# Altium footprint library Connectors.PcbLib: 10 footprints
Each footprint in its own frame and in the unit in brackets; x right, y up, seen from the top. Pads: shape width x height; smd on the part's side, far side on the other; paste and mask are expansions set on the pad; w line width, h text height; cw(c..) or ccw(c..) is an arc to the next point about the centre after c.
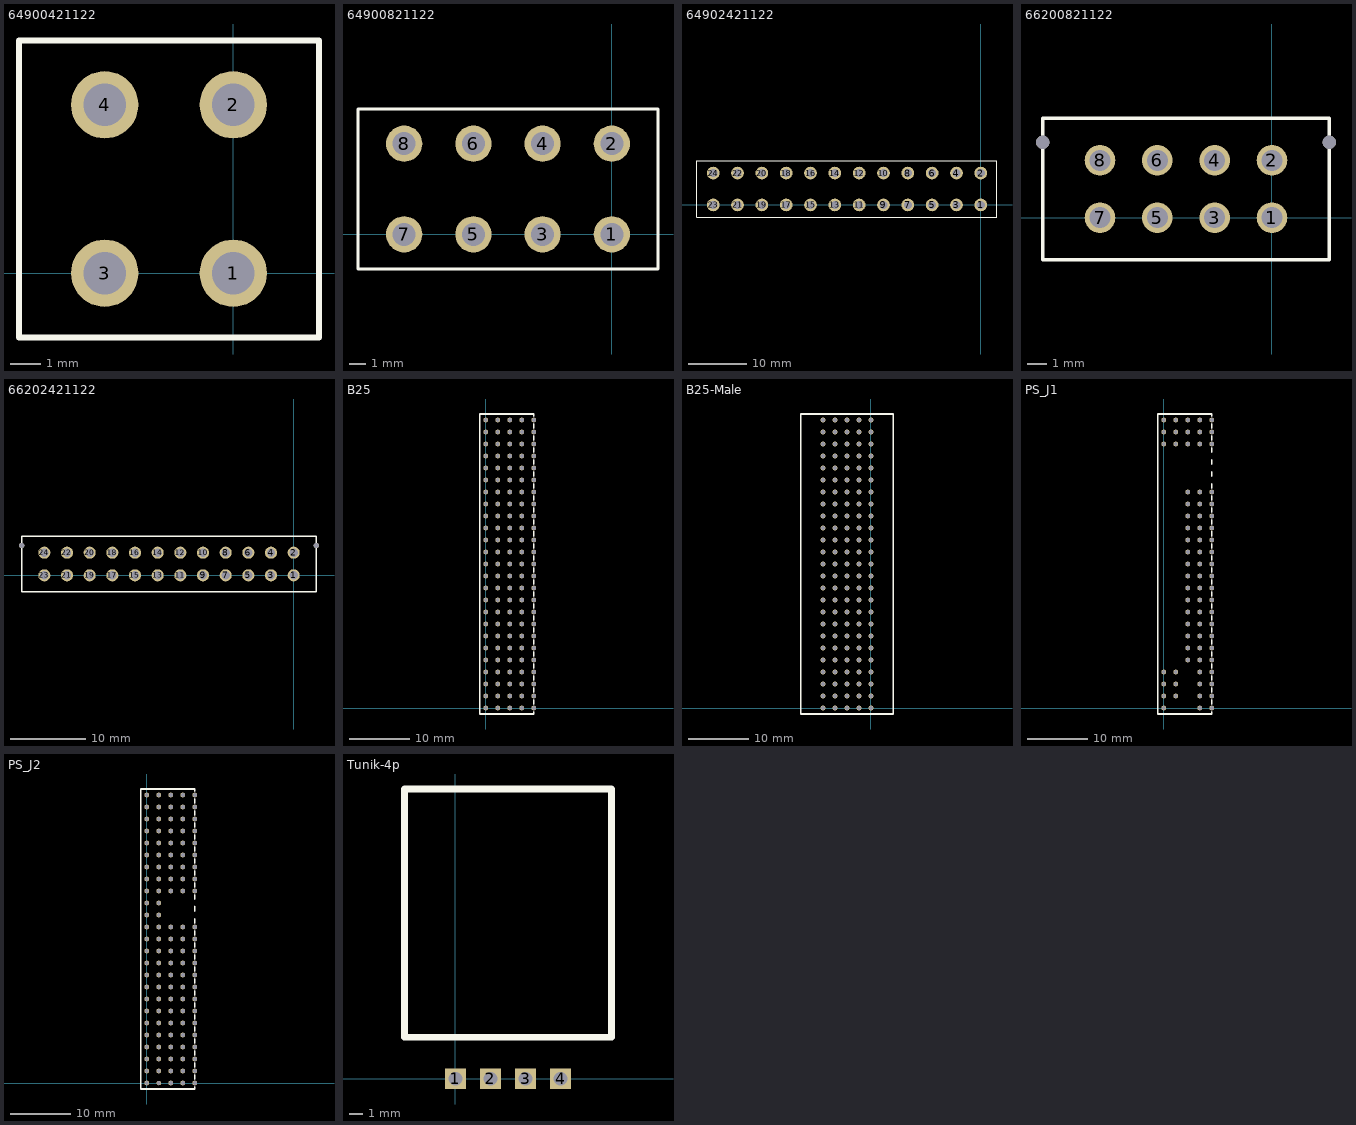
[diagram p0: the footprints below, top view; thin cyan lines are the x and y axes]

## 64900421122 [mm]
pads (4):
  round 2.2 hole 1.4: 1(0,0) 2(0,5.5) 3(-4.2,0) 4(-4.2,5.5)
Top Overlay:
  lines w0.2: -7,-2.1 2.8,-2.1 2.8,7.6 -7,7.6 -7,-2.1

## 64900821122 [mm]
pads (8):
  round 2.2 hole 1.4: 1(0,0) 2(0,5.5) 3(-4.2,0) 4(-4.2,5.5) 5(-8.4,0) 6(-8.4,5.5) 7(-12.6,0) 8(-12.6,5.5)
Top Overlay:
  lines w0.2: -15.4,-2.1 -15.4,7.6 2.8,7.6 2.8,-2.1 -15.4,-2.1

## 64902421122 [mm]
pads (24):
  round 2.2 hole 1.4: 1(0,0) 2(0,5.5) 3(-4.2,0) 4(-4.2,5.5) 5(-8.4,0) 6(-8.4,5.5) 7(-12.6,0) 8(-12.6,5.5) 9(-16.8,0) 10(-16.8,5.5) 11(-21,0) 12(-21,5.5) 13(-25.2,0) 14(-25.2,5.5) 15(-29.4,0) 16(-29.4,5.5) 17(-33.6,0) 18(-33.6,5.5) 19(-37.8,0) 20(-37.8,5.5) 21(-42,0) 22(-42,5.5) 23(-46.2,0) 24(-46.2,5.5)
Top Overlay:
  lines w0.2: -49,-2.1 2.8,-2.1 2.8,7.6 -49,7.6 -49,-2.1

## 66200821122 [mm]
pads (10):
  round 1.6 hole 1.1: 1(0,0) 2(0,3) 3(-3,0) 4(-3,3) 5(-6,0) 6(-6,3) 7(-9,0) 8(-9,3)
  round 0.7 hole 0.7: ""(-12,3.94) ""(3,3.94)
Top Overlay:
  lines w0.2: -12,-2.2 -12,5.2 3,5.2 3,-2.2 -12,-2.2

## 66202421122 [mm]
pads (26):
  round 1.6 hole 1.1: 1(0,0) 2(0,3) 3(-3,0) 4(-3,3) 5(-6,0) 6(-6,3) 7(-9,0) 8(-9,3) 9(-12,0) 10(-12,3) 11(-15,0) 12(-15,3) 13(-18,0) 14(-18,3) 15(-21,0) 16(-21,3) 17(-24,0) 18(-24,3) 19(-27,0) 20(-27,3) 21(-30,0) 22(-30,3) 23(-33,0) 24(-33,3)
  round 0.7 hole 0.7: ""(-36,3.94) ""(3,3.94)
Top Overlay:
  lines w0.2: -36,-2.2 3,-2.2 3,5.2 -33,5.2 -36,5.2 -36,-2.2

## B25 [mm] "EPT B25 Female Connector 244-21300-15"
height 20
pads (125):
  round 0.8 hole 0.65: A1(0,0) A2(0,2) A3(0,4) A4(0,6) A5(0,8) A6(0,10) A7(0,12) A8(0,14) A9(0,16) A10(0,18) A11(0,20) A12(0,22) A13(0,24) A14(0,26) A15(0,28) A16(0,30) A17(0,32) A18(0,34) A19(0,36) A20(0,38) A21(0,40) A22(0,42) A23(0,44) A24(0,46) A25(0,48) B1(2,0) B2(2,2) B3(2,4) B4(2,6) B5(2,8) B6(2,10) B7(2,12) B8(2,14) B9(2,16) B10(2,18) B11(2,20) B12(2,22) B13(2,24) B14(2,26) B15(2,28) B16(2,30) B17(2,32) B18(2,34) B19(2,36) B20(2,38) B21(2,40) B22(2,42) B23(2,44) B24(2,46) B25(2,48) C1(4,0) C2(4,2) C3(4,4) C4(4,6) C5(4,8) C6(4,10) C7(4,12) C8(4,14) C9(4,16) C10(4,18) C11(4,20) C12(4,22) C13(4,24) C14(4,26) C15(4,28) C16(4,30) C17(4,32) C18(4,34) C19(4,36) C20(4,38) C21(4,40) C22(4,42) C23(4,44) C24(4,46) C25(4,48) D1(6,0) D2(6,2) D3(6,4) D4(6,6) D5(6,8) D6(6,10) D7(6,12) D8(6,14) D9(6,16) D10(6,18) D11(6,20) D12(6,22) D13(6,24) D14(6,26) D15(6,28) D16(6,30) D17(6,32) D18(6,34) D19(6,36) D20(6,38) D21(6,40) D22(6,42) D23(6,44) D24(6,46) D25(6,48) E1(8,0) E2(8,2) E3(8,4) E4(8,6) E5(8,8) E6(8,10) E7(8,12) E8(8,14) E9(8,16) E10(8,18) E11(8,20) E12(8,22) E13(8,24) E14(8,26) E15(8,28) E16(8,30) E17(8,32) E18(8,34) E19(8,36) E20(8,38) E21(8,40) E22(8,42) E23(8,44) E24(8,46) E25(8,48)
Top Overlay:
  lines w0.254: 7.993,-0.599 7.993,-0.999 -1,-0.999 -1,49 8,49 8,48.625 ; 8,0.6 8,1.4 ; 8,2.6 8,3.4 ; 8,4.6 8,5.4 ; 8,6.6 8,7.4 ; 8,8.6 8,9.4 ; 8,10.6 8,11.4 ; 8,12.6 8,13.4 ; 8,14.6 8,15.4 ; 8,16.6 8,17.4 ; 8,18.6 8,19.4 ; 8,20.599 8,21.4 ; 8,22.6 8,23.4 ; 8,24.6 8,25.4 ; 8,26.6 8,27.4 ; 8,28.625 8,29.425 ; 8,30.6 8,31.4 ; 8,32.6 8,33.4 ; 8,34.6 8,35.4 ; 8,36.6 8,37.4 ; 8,38.6 8,39.4 ; 8,40.6 8,41.4 ; 8,42.6 8,43.4 ; 8,44.6 8,45.4 ; 8,46.6 8,47.4
3D body: height 7.65, standoff -3.7, extent -10.827,-0.889 9.373,49.011

## B25-Male [mm]
pads (125):
  round 0.8 hole 0.65: A1(-8,0) A2(-8,2) A3(-8,4) A4(-8,6) A5(-8,8) A6(-8,10) A7(-8,12) A8(-8,14) A9(-8,16) A10(-8,18) A11(-8,20) A12(-8,22) A13(-8,24) A14(-8,26) A15(-8,28) A16(-8,30) A17(-8,32) A18(-8,34) A19(-8,36) A20(-8,38) A21(-8,40) A22(-8,42) A23(-8,44) A24(-8,46) A25(-8,48) B1(-6,0) B2(-6,2) B3(-6,4) B4(-6,6) B5(-6,8) B6(-6,10) B7(-6,12) B8(-6,14) B9(-6,16) B10(-6,18) B11(-6,20) B12(-6,22) B13(-6,24) B14(-6,26) B15(-6,28) B16(-6,30) B17(-6,32) B18(-6,34) B19(-6,36) B20(-6,38) B21(-6,40) B22(-6,42) B23(-6,44) B24(-6,46) B25(-6,48) C1(-4,0) C2(-4,2) C3(-4,4) C4(-4,6) C5(-4,8) C6(-4,10) C7(-4,12) C8(-4,14) C9(-4,16) C10(-4,18) C11(-4,20) C12(-4,22) C13(-4,24) C14(-4,26) C15(-4,28) C16(-4,30) C17(-4,32) C18(-4,34) C19(-4,36) C20(-4,38) C21(-4,40) C22(-4,42) C23(-4,44) C24(-4,46) C25(-4,48) D1(-2,0) D2(-2,2) D3(-2,4) D4(-2,6) D5(-2,8) D6(-2,10) D7(-2,12) D8(-2,14) D9(-2,16) D10(-2,18) D11(-2,20) D12(-2,22) D13(-2,24) D14(-2,26) D15(-2,28) D16(-2,30) D17(-2,32) D18(-2,34) D19(-2,36) D20(-2,38) D21(-2,40) D22(-2,42) D23(-2,44) D24(-2,46) D25(-2,48) E1(0,0) E2(0,2) E3(0,4) E4(0,6) E5(0,8) E6(0,10) E7(0,12) E8(0,14) E9(0,16) E10(0,18) E11(0,20) E12(0,22) E13(0,24) E14(0,26) E15(0,28) E16(0,30) E17(0,32) E18(0,34) E19(0,36) E20(0,38) E21(0,40) E22(0,42) E23(0,44) E24(0,46) E25(0,48)
Top Overlay:
  lines w0.254: -11.7,-0.999 3.7,-0.999 3.7,49 -11.7,49 -11.7,-0.999
3D body: height 3.15, standoff -14, extent -11.666,-1.3 3.784,48.9

## PS_J1 [mm]
pads (75):
  round 0.8 hole 0.65: A1(0,0)
  round 0.8 / inner round 1.524 / far side round 0.8 hole 0.65: A2(0,2) A3(0,4) A4(0,6) A23(0,44) A24(0,46) A25(0,48) B2(2,2) B3(2,4) B4(2,6) B23(2,44) B24(2,46) B25(2,48) C5(4,8) C6(4,10) C7(4,12) C8(4,14) C9(4,16) C10(4,18) C11(4,20) C12(4,22) C13(4,24) C14(4,26) C15(4,28) C16(4,30) C17(4,32) C18(4,34) C19(4,36) C23(4,44) C24(4,46) C25(4,48) D1(6,0) D2(6,2) D3(6,4) D4(6,6) D5(6,8) D6(6,10) D7(6,12) D8(6,14) D9(6,16) D10(6,18) D11(6,20) D12(6,22) D13(6,24) D14(6,26) D15(6,28) D16(6,30) D17(6,32) D18(6,34) D19(6,36) D23(6,44) D24(6,46) D25(6,48) E1(8,0) E2(8,2) E3(8,4) E4(8,6) E5(8,8) E6(8,10) E7(8,12) E8(8,14) E9(8,16) E10(8,18) E11(8,20) E12(8,22) E13(8,24) E14(8,26) E15(8,28) E16(8,30) E17(8,32) E18(8,34) E19(8,36) E23(8,44) E24(8,46) E25(8,48)
Top Overlay:
  lines w0.254: 7.993,-0.599 7.993,-0.999 -1,-0.999 -1,49 8,49 8,48.625 ; 8,0.6 8,1.4 ; 8,2.6 8,3.4 ; 8,4.6 8,5.4 ; 8,6.6 8,7.4 ; 8,8.6 8,9.4 ; 8,10.6 8,11.4 ; 8,12.6 8,13.4 ; 8,14.6 8,15.4 ; 8,16.6 8,17.4 ; 8,18.6 8,19.4 ; 8,20.599 8,21.4 ; 8,22.6 8,23.4 ; 8,24.6 8,25.4 ; 8,26.6 8,27.4 ; 8,28.625 8,29.425 ; 8,30.6 8,31.4 ; 8,32.6 8,33.4 ; 8,34.6 8,35.4 ; 8,36.6 8,37.4 ; 8,38.6 8,39.4 ; 8,40.6 8,41.4 ; 8,42.6 8,43.4 ; 8,44.6 8,45.4 ; 8,46.6 8,47.4

## PS_J2 [mm]
pads (119):
  round 0.8 hole 0.65: A1(0,0)
  round 0.8 / inner round 1.524 / far side round 0.8 hole 0.65: A2(0,2) A3(0,4) A4(0,6) A5(0,8) A6(0,10) A7(0,12) A8(0,14) A9(0,16) A10(0,18) A11(0,20) A12(0,22) A13(0,24) A14(0,26) A15(0,28) A16(0,30) A17(0,32) A18(0,34) A19(0,36) A20(0,38) A21(0,40) A22(0,42) A23(0,44) A24(0,46) A25(0,48) B2(2,2) B3(2,4) B4(2,6) B5(2,8) B6(2,10) B7(2,12) B8(2,14) B9(2,16) B10(2,18) B11(2,20) B12(2,22) B13(2,24) B14(2,26) B15(2,28) B16(2,30) B17(2,32) B18(2,34) B19(2,36) B20(2,38) B21(2,40) B22(2,42) B23(2,44) B24(2,46) B25(2,48) C1(4,0) C2(4,2) C3(4,4) C4(4,6) C5(4,8) C6(4,10) C7(4,12) C8(4,14) C9(4,16) C10(4,18) C11(4,20) C12(4,22) C13(4,24) C14(4,26) C17(4,32) C18(4,34) C19(4,36) C20(4,38) C21(4,40) C22(4,42) C23(4,44) C24(4,46) C25(4,48) D1(6,0) D2(6,2) D3(6,4) D4(6,6) D5(6,8) D6(6,10) D7(6,12) D8(6,14) D9(6,16) D10(6,18) D11(6,20) D12(6,22) D13(6,24) D14(6,26) D17(6,32) D18(6,34) D19(6,36) D20(6,38) D21(6,40) D22(6,42) D23(6,44) D24(6,46) D25(6,48) E1(8,0) E2(8,2) E3(8,4) E4(8,6) E5(8,8) E6(8,10) E7(8,12) E8(8,14) E9(8,16) E10(8,18) E11(8,20) E12(8,22) E13(8,24) E14(8,26) E17(8,32) E18(8,34) E19(8,36) E20(8,38) E21(8,40) E22(8,42) E23(8,44) E24(8,46) E25(8,48)
  round 0.749 / inner round 1.524 / far side round 0.749 hole 0.65: B1(2,0)
Top Overlay:
  lines w0.254: 7.993,-0.599 7.993,-0.999 -1,-0.999 -1,49 8,49 8,48.625 ; 8,0.6 8,1.4 ; 8,2.6 8,3.4 ; 8,4.6 8,5.4 ; 8,6.6 8,7.4 ; 8,8.6 8,9.4 ; 8,10.6 8,11.4 ; 8,12.6 8,13.4 ; 8,14.6 8,15.4 ; 8,16.6 8,17.4 ; 8,18.6 8,19.4 ; 8,20.599 8,21.4 ; 8,22.6 8,23.4 ; 8,24.6 8,25.4 ; 8,26.6 8,27.4 ; 8,28.625 8,29.425 ; 8,30.6 8,31.4 ; 8,32.6 8,33.4 ; 8,34.6 8,35.4 ; 8,36.6 8,37.4 ; 8,38.6 8,39.4 ; 8,40.6 8,41.4 ; 8,42.6 8,43.4 ; 8,44.6 8,45.4 ; 8,46.6 8,47.4

## Tunik-4p [mm] "90 Deg"
height 7.5
pads (4):
  rect 1.5x1.5 hole 1: 1(0,0) 2(2.54,0) 3(5.08,0) 4(7.62,0)
Top Overlay:
  lines w0.5: -3.7,3 -3.7,21 11.32,21 11.32,3 -3.7,3